# Altium integrated library Capacitor - Ceramic - Sumsung.IntLib: 1421 symbols (part 1 of 22)
Pins are listed as number, name and electrical type; pins without a type are passive.

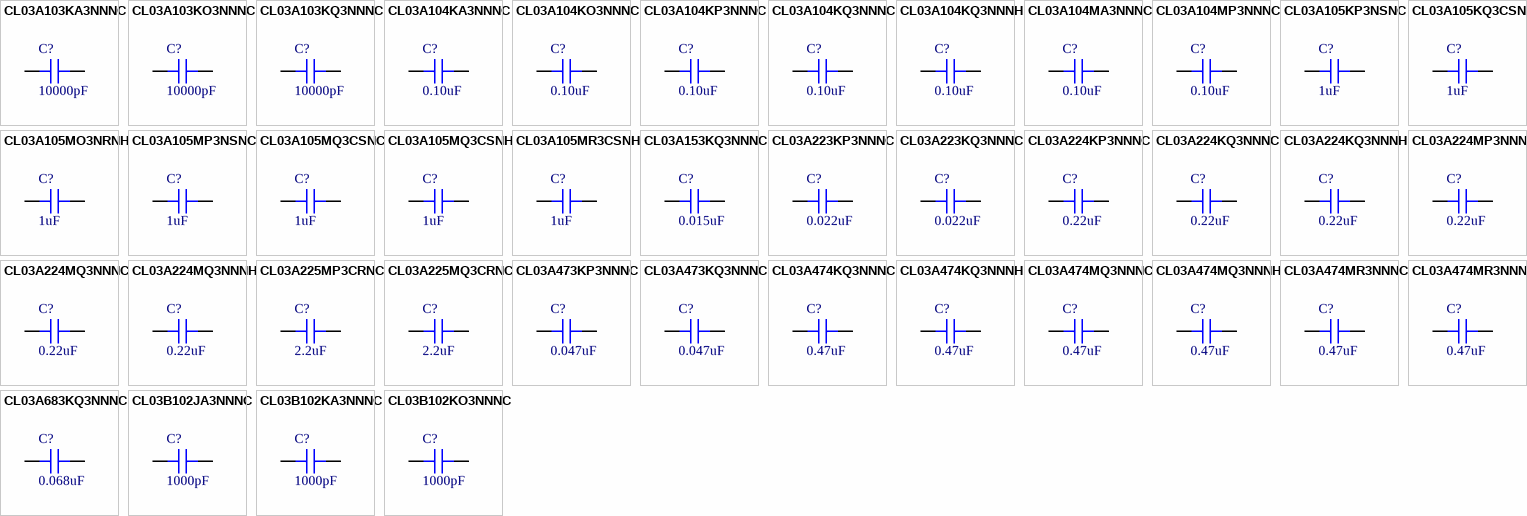
[diagram p0: symbols CL03A103KA3NNNC to CL03B102KO3NNNC]

## CL03A103KA3NNNC
designator C?, comment 10000pF
CAP CER 10000PF 25V X5R 0201; Part Number: CL03A103KA3NNNC; Manufacturer: Samsung Electro-Mechanics America, Inc.; TemperatureRange: -55C ~ 85C; Tolerance: 10%; Value: 10000pF; PartId: 20651; Supplier 1: Digi-Key; Supplier Part Number 1: 1276-1314-2-ND; ComponentLink1Description: Datasheet; ComponentLink1URL: http://www.samsungsem.com/kr/support/product-search/mlcc/__icsFiles/afieldfile/2016/08/18/S_CL03A103KA3NNNC.pdf; ComponentLink2Description: Digi-Key Listing; ComponentLink2URL: https://www.digikey.com/product-detail/en/samsung-electro-mechanics-america-inc/CL03A103KA3NNNC/1276-1314-2-ND/3886972; TemperatureCoefficient: X5R; Voltage: 25V; Price: 0.0247; Device Package: 0201 (0603 Metric)
footprint CAP 0201/0603
pins: 1, 2

## CL03A103KO3NNNC
designator C?, comment 10000pF
CAP CER 10000PF 16V X5R 0201; Part Number: CL03A103KO3NNNC; Manufacturer: Samsung Electro-Mechanics America, Inc.; TemperatureRange: -55C ~ 85C; Tolerance: 10%; Value: 10000pF; PartId: 20504; Supplier 1: Digi-Key; Supplier Part Number 1: 1276-1315-2-ND; ComponentLink1Description: Datasheet; ComponentLink1URL: http://www.samsungsem.com/kr/support/product-search/mlcc/__icsFiles/afieldfile/2016/08/18/S_CL03A103KO3NNNC.pdf; ComponentLink2Description: Digi-Key Listing; ComponentLink2URL: https://www.digikey.com/product-detail/en/samsung-electro-mechanics-america-inc/CL03A103KO3NNNC/1276-1315-2-ND/3886973; TemperatureCoefficient: X5R; Voltage: 16V; Price: 0.0023; Device Package: 0201 (0603 Metric)
footprint CAP 0201/0603
pins: 1, 2

## CL03A103KQ3NNNC
designator C?, comment 10000pF
CAP CER 10000PF 6.3V X5R 0201; Part Number: CL03A103KQ3NNNC; Manufacturer: Samsung Electro-Mechanics America, Inc.; TemperatureRange: -55C ~ 85C; Tolerance: 10%; Value: 10000pF; PartId: 20503; Supplier 1: Digi-Key; Supplier Part Number 1: 1276-1317-2-ND; ComponentLink1Description: Datasheet; ComponentLink1URL: http://www.samsungsem.com/kr/support/product-search/mlcc/__icsFiles/afieldfile/2016/08/18/S_CL03A103KQ3NNNC.pdf; ComponentLink2Description: Digi-Key Listing; ComponentLink2URL: https://www.digikey.com/product-detail/en/samsung-electro-mechanics-america-inc/CL03A103KQ3NNNC/1276-1317-2-ND/3886975; TemperatureCoefficient: X5R; Voltage: 6.3V; Price: 0.0023; Device Package: 0201 (0603 Metric)
footprint CAP 0201/0603
pins: 1, 2

## CL03A104KA3NNNC
designator C?, comment 0.10uF
CAP CER 0.1UF 25V X5R 0201; Part Number: CL03A104KA3NNNC; Manufacturer: Samsung Electro-Mechanics America, Inc.; TemperatureRange: -55C ~ 85C; Tolerance: 10%; Value: 0.10uF; PartId: 20441; Supplier 1: Digi-Key; Supplier Part Number 1: 1276-1318-2-ND; ComponentLink1Description: Datasheet; ComponentLink1URL: http://www.samsungsem.com/kr/support/product-search/mlcc/__icsFiles/afieldfile/2016/08/18/S_CL03A104KA3NNNC.pdf; ComponentLink2Description: Digi-Key Listing; ComponentLink2URL: https://www.digikey.com/product-detail/en/samsung-electro-mechanics-america-inc/CL03A104KA3NNNC/1276-1318-2-ND/3886976; TemperatureCoefficient: X5R; Voltage: 25V; Price: 0.0612; Device Package: 0201 (0603 Metric)
footprint CAP 0201/0603
pins: 1, 2

## CL03A104KO3NNNC
designator C?, comment 0.10uF
CAP CER 0.1UF 16V X5R 0201; Part Number: CL03A104KO3NNNC; Manufacturer: Samsung Electro-Mechanics America, Inc.; TemperatureRange: -55C ~ 85C; Tolerance: 10%; Value: 0.10uF; PartId: 20443; Supplier 1: Digi-Key; Supplier Part Number 1: 1276-1319-2-ND; ComponentLink1Description: Datasheet; ComponentLink1URL: http://www.samsungsem.com/kr/support/product-search/mlcc/__icsFiles/afieldfile/2016/08/18/S_CL03A104KO3NNNC.pdf; ComponentLink2Description: Digi-Key Listing; ComponentLink2URL: https://www.digikey.com/product-detail/en/samsung-electro-mechanics-america-inc/CL03A104KO3NNNC/1276-1319-2-ND/3886977; TemperatureCoefficient: X5R; Voltage: 16V; Price: 0.0646; Device Package: 0201 (0603 Metric)
footprint CAP 0201/0603
pins: 1, 2

## CL03A104KP3NNNC
designator C?, comment 0.10uF
CAP CER 0.1UF 10V X5R 0201; Part Number: CL03A104KP3NNNC; Manufacturer: Samsung Electro-Mechanics America, Inc.; TemperatureRange: -55C ~ 85C; Tolerance: 10%; Value: 0.10uF; PartId: 20562; Supplier 1: Digi-Key; Supplier Part Number 1: 1276-1115-2-ND; ComponentLink1Description: Datasheet; ComponentLink1URL: http://www.samsungsem.com/kr/support/product-search/mlcc/__icsFiles/afieldfile/2016/08/18/S_CL03A104KP3NNND.pdf; ComponentLink2Description: Digi-Key Listing; ComponentLink2URL: https://www.digikey.com/product-detail/en/samsung-electro-mechanics-america-inc/CL03A104KP3NNNC/1276-1115-2-ND/3886773; TemperatureCoefficient: X5R; Voltage: 10V; Price: 0.0031; Device Package: 0201 (0603 Metric)
footprint CAP 0201/0603
pins: 1, 2

## CL03A104KQ3NNNC
designator C?, comment 0.10uF
CAP CER 0.1UF 6.3V X5R 0201; Part Number: CL03A104KQ3NNNC; Manufacturer: Samsung Electro-Mechanics America, Inc.; TemperatureRange: -55C ~ 85C; Tolerance: 10%; Value: 0.10uF; PartId: 20607; Supplier 1: Digi-Key; Supplier Part Number 1: 1276-1013-2-ND; ComponentLink1Description: Datasheet; ComponentLink1URL: http://www.samsungsem.com/kr/support/product-search/mlcc/__icsFiles/afieldfile/2016/08/18/S_CL03A104KQ3NNNC.pdf; ComponentLink2Description: Digi-Key Listing; ComponentLink2URL: https://www.digikey.com/product-detail/en/samsung-electro-mechanics-america-inc/CL03A104KQ3NNNC/1276-1013-2-ND/3886671; TemperatureCoefficient: X5R; Voltage: 6.3V; Price: 0.0045; Device Package: 0201 (0603 Metric)
footprint CAP 0201/0603
pins: 1, 2

## CL03A104KQ3NNNH
designator C?, comment 0.10uF
CAP CER 0.1UF 6.3V X5R 0201; Part Number: CL03A104KQ3NNNH; Manufacturer: Samsung Electro-Mechanics America, Inc.; TemperatureRange: -55C ~ 85C; Tolerance: 10%; Value: 0.10uF; PartId: 20461; Supplier 1: Digi-Key; Supplier Part Number 1: 1276-6439-2-ND; ComponentLink1Description: Datasheet; ComponentLink1URL: http://www.samsungsem.com/kr/support/product-search/mlcc/__icsFiles/afieldfile/2016/08/18/S_CL03A104KQ3NNNH.pdf; ComponentLink2Description: Digi-Key Listing; ComponentLink2URL: https://www.digikey.com/product-detail/en/samsung-electro-mechanics-america-inc/CL03A104KQ3NNNH/1276-6439-2-ND/3894095; TemperatureCoefficient: X5R; Voltage: 6.3V; Price: 0.0014; Device Package: 0201 (0603 Metric)
footprint CAP 0201/0603
pins: 1, 2

## CL03A104MA3NNNC
designator C?, comment 0.10uF
CAP CER 0.1UF 25V X5R 0201; Part Number: CL03A104MA3NNNC; Manufacturer: Samsung Electro-Mechanics America, Inc.; TemperatureRange: -55C ~ 85C; Tolerance: 20%; Value: 0.10uF; PartId: 20858; Supplier 1: Digi-Key; Supplier Part Number 1: 1276-1320-2-ND; ComponentLink1Description: Datasheet; ComponentLink1URL: http://www.samsungsem.com/kr/support/product-search/mlcc/__icsFiles/afieldfile/2016/08/18/S_CL03A104MA3NNNC.pdf; ComponentLink2Description: Digi-Key Listing; ComponentLink2URL: https://www.digikey.com/product-detail/en/samsung-electro-mechanics-america-inc/CL03A104MA3NNNC/1276-1320-2-ND/3886978; TemperatureCoefficient: X5R; Voltage: 25V; Price: 0.0712; Device Package: 0201 (0603 Metric)
footprint CAP 0201/0603
pins: 1, 2

## CL03A104MP3NNNC
designator C?, comment 0.10uF
CAP CER 0.1UF 10V X5R 0201; Part Number: CL03A104MP3NNNC; Manufacturer: Samsung Electro-Mechanics America, Inc.; TemperatureRange: -55C ~ 85C; Tolerance: 20%; Value: 0.10uF; PartId: 20615; Supplier 1: Digi-Key; Supplier Part Number 1: 1276-1321-2-ND; ComponentLink1Description: Datasheet; ComponentLink1URL: http://www.samsungsem.com/kr/support/product-search/mlcc/__icsFiles/afieldfile/2016/08/18/S_CL03A104MP3NNNC.pdf; ComponentLink2Description: Digi-Key Listing; ComponentLink2URL: https://www.digikey.com/product-detail/en/samsung-electro-mechanics-america-inc/CL03A104MP3NNNC/1276-1321-2-ND/3886979; TemperatureCoefficient: X5R; Voltage: 10V; Price: 0.0056; Device Package: 0201 (0603 Metric)
footprint CAP 0201/0603
pins: 1, 2

## CL03A105KP3NSNC
designator C?, comment 1uF
CAP CER 1UF 10V X5R 0201; Part Number: CL03A105KP3NSNC; Manufacturer: Samsung Electro-Mechanics America, Inc.; TemperatureRange: -55C ~ 85C; Tolerance: 10%; Value: 1uF; PartId: 20650; Supplier 1: Digi-Key; Supplier Part Number 1: 1276-6795-2-ND; ComponentLink1Description: Datasheet; ComponentLink1URL: //media.digikey.com/pdf/Data%20Sheets/Samsung%20PDFs/MLCC_Catalog_2015.pdf; ComponentLink2Description: Digi-Key Listing; ComponentLink2URL: https://www.digikey.com/product-detail/en/samsung-electro-mechanics-america-inc/CL03A105KP3NSNC/1276-6795-2-ND/5961279; TemperatureCoefficient: X5R; Voltage: 10V; Price: 0.0237; Device Package: 0201 (0603 Metric)
footprint CAP 0201/0603
pins: 1, 2

## CL03A105KQ3CSNC
designator C?, comment 1uF
CAP CER 1UF 6.3V X5R 0201; Part Number: CL03A105KQ3CSNC; Manufacturer: Samsung Electro-Mechanics America, Inc.; TemperatureRange: -55C ~ 85C; Tolerance: 10%; Value: 1uF; PartId: 20445; Supplier 1: Digi-Key; Supplier Part Number 1: 1276-1323-2-ND; ComponentLink1Description: Datasheet; ComponentLink1URL: http://www.samsungsem.com/kr/support/product-search/mlcc/__icsFiles/afieldfile/2016/08/18/S_CL03A105KQ3CSNC.pdf; ComponentLink2Description: Digi-Key Listing; ComponentLink2URL: https://www.digikey.com/product-detail/en/samsung-electro-mechanics-america-inc/CL03A105KQ3CSNC/1276-1323-2-ND/3886981; TemperatureCoefficient: X5R; Voltage: 6.3V; Price: 0.072; Device Package: 0201 (0603 Metric)
footprint CAP 0201/0603
pins: 1, 2

## CL03A105MO3NRNH
designator C?, comment 1uF
CAP CER 1UF 16V X5R 0201; Part Number: CL03A105MO3NRNH; Manufacturer: Samsung Electro-Mechanics America, Inc.; TemperatureRange: -55C ~ 85C; Tolerance: 20%; Value: 1uF; PartId: 20655; Supplier 1: Digi-Key; Supplier Part Number 1: 1276-6798-2-ND; ComponentLink1Description: Datasheet; ComponentLink1URL: //media.digikey.com/pdf/Data%20Sheets/Samsung%20PDFs/CL03A105MO3NRNH_Spec.pdf; ComponentLink2Description: Digi-Key Listing; ComponentLink2URL: https://www.digikey.com/product-detail/en/samsung-electro-mechanics-america-inc/CL03A105MO3NRNH/1276-6798-2-ND/5961282; TemperatureCoefficient: X5R; Voltage: 16V; Price: 0.0376; Device Package: 0201 (0603 Metric)
footprint CAP 0201/0603
pins: 1, 2

## CL03A105MP3NSNC
designator C?, comment 1uF
CAP CER 1UF 10V X5R 0201; Part Number: CL03A105MP3NSNC; Manufacturer: Samsung Electro-Mechanics America, Inc.; TemperatureRange: -55C ~ 85C; Tolerance: 20%; Value: 1uF; PartId: 20447; Supplier 1: Digi-Key; Supplier Part Number 1: 1276-1324-2-ND; ComponentLink1Description: Datasheet; ComponentLink1URL: http://www.samsungsem.com/kr/support/product-search/mlcc/__icsFiles/afieldfile/2016/08/18/S_CL03A105MP3NSNC.pdf; ComponentLink2Description: Digi-Key Listing; ComponentLink2URL: https://www.digikey.com/product-detail/en/samsung-electro-mechanics-america-inc/CL03A105MP3NSNC/1276-1324-2-ND/3886982; TemperatureCoefficient: X5R; Voltage: 10V; Price: 0.1301; Device Package: 0201 (0603 Metric)
footprint CAP 0201/0603
pins: 1, 2

## CL03A105MQ3CSNC
designator C?, comment 1uF
CAP CER 1UF 6.3V X5R 0201; Part Number: CL03A105MQ3CSNC; Manufacturer: Samsung Electro-Mechanics America, Inc.; TemperatureRange: -55C ~ 85C; Tolerance: 20%; Value: 1uF; PartId: 20444; Supplier 1: Digi-Key; Supplier Part Number 1: 1276-1325-2-ND; ComponentLink1Description: Datasheet; ComponentLink1URL: http://www.samsungsem.com/kr/support/product-search/mlcc/__icsFiles/afieldfile/2016/08/18/S_CL03A105MQ3CSNC.pdf; ComponentLink2Description: Digi-Key Listing; ComponentLink2URL: https://www.digikey.com/product-detail/en/samsung-electro-mechanics-america-inc/CL03A105MQ3CSNC/1276-1325-2-ND/3886983; TemperatureCoefficient: X5R; Voltage: 6.3V; Price: 0.0665; Device Package: 0201 (0603 Metric)
footprint CAP 0201/0603
pins: 1, 2

## CL03A105MQ3CSNH
designator C?, comment 1uF
CAP CER 1UF 6.3V X5R 0201; Part Number: CL03A105MQ3CSNH; Manufacturer: Samsung Electro-Mechanics; TemperatureRange: -55C ~ 85C; Tolerance: 20%; Value: 1uF; PartId: 30186; Supplier 1: Digi-Key; Supplier Part Number 1: 1276-6441-2-ND; ComponentLink1Description: Datasheet; ComponentLink1URL: http://www.samsungsem.com/kr/support/product-search/mlcc/CL03A105MQ3CSNH.jsp; ComponentLink2Description: Digi-Key Listing; ComponentLink2URL: https://www.digikey.com/product-detail/en/samsung-electro-mechanics/CL03A105MQ3CSNH/1276-6441-2-ND/3894097; TemperatureCoefficient: X5R; Voltage: 6.3V; Price: 0; Device Package: 0201 (0603 Metric)
footprint CAP 0201/0603
pins: 1, 2

## CL03A105MR3CSNH
designator C?, comment 1uF
CAP CER 1UF 4V X5R 0201; Part Number: CL03A105MR3CSNH; Manufacturer: Samsung Electro-Mechanics America, Inc.; TemperatureRange: -55C ~ 85C; Tolerance: 20%; Value: 1uF; PartId: 21024; Supplier 1: Digi-Key; Supplier Part Number 1: 1276-6442-2-ND; ComponentLink1Description: Datasheet; ComponentLink1URL: http://www.samsungsem.com/kr/support/product-search/mlcc/__icsFiles/afieldfile/2016/08/18/S_CL03A105MR3CSNH.pdf; ComponentLink2Description: Digi-Key Listing; ComponentLink2URL: https://www.digikey.com/product-detail/en/samsung-electro-mechanics-america-inc/CL03A105MR3CSNH/1276-6442-2-ND/3894098; TemperatureCoefficient: X5R; Voltage: 4V; Price: 0.0638; Device Package: 0201 (0603 Metric)
footprint CAP 0201/0603
pins: 1, 2

## CL03A153KQ3NNNC
designator C?, comment 0.015uF
CAP CER 0.015UF 6.3V X5R 0201; Part Number: CL03A153KQ3NNNC; Manufacturer: Samsung Electro-Mechanics America, Inc.; TemperatureRange: -55C ~ 85C; Tolerance: 10%; Value: 0.015uF; PartId: 21057; Supplier 1: Digi-Key; Supplier Part Number 1: 1276-1327-2-ND; ComponentLink1Description: Datasheet; ComponentLink1URL: http://www.samsungsem.com/kr/support/product-search/mlcc/__icsFiles/afieldfile/2016/08/18/S_CL03A153KQ3NNNC.pdf; ComponentLink2Description: Digi-Key Listing; ComponentLink2URL: https://www.digikey.com/product-detail/en/samsung-electro-mechanics-america-inc/CL03A153KQ3NNNC/1276-1327-2-ND/3886985; TemperatureCoefficient: X5R; Voltage: 6.3V; Price: 0.0046; Device Package: 0201 (0603 Metric)
footprint CAP 0201/0603
pins: 1, 2

## CL03A223KP3NNNC
designator C?, comment 0.022uF
CAP CER 0.022UF 10V X5R 0201; Part Number: CL03A223KP3NNNC; Manufacturer: Samsung Electro-Mechanics America, Inc.; TemperatureRange: -55C ~ 85C; Tolerance: 10%; Value: 0.022uF; PartId: 21081; Supplier 1: Digi-Key; Supplier Part Number 1: 1276-1329-2-ND; ComponentLink1Description: Datasheet; ComponentLink1URL: http://www.samsungsem.com/kr/support/product-search/mlcc/__icsFiles/afieldfile/2016/08/18/S_CL03A223KP3NNNC.pdf; ComponentLink2Description: Digi-Key Listing; ComponentLink2URL: https://www.digikey.com/product-detail/en/samsung-electro-mechanics-america-inc/CL03A223KP3NNNC/1276-1329-2-ND/3886987; TemperatureCoefficient: X5R; Voltage: 10V; Price: 0.0046; Device Package: 0201 (0603 Metric)
footprint CAP 0201/0603
pins: 1, 2

## CL03A223KQ3NNNC
designator C?, comment 0.022uF
CAP CER 0.022UF 6.3V X5R 0201; Part Number: CL03A223KQ3NNNC; Manufacturer: Samsung Electro-Mechanics America, Inc.; TemperatureRange: -55C ~ 85C; Tolerance: 10%; Value: 0.022uF; PartId: 20769; Supplier 1: Digi-Key; Supplier Part Number 1: 1276-1330-2-ND; ComponentLink1Description: Datasheet; ComponentLink1URL: http://www.samsungsem.com/kr/support/product-search/mlcc/__icsFiles/afieldfile/2016/08/18/S_CL03A223KQ3NNNC.pdf; ComponentLink2Description: Digi-Key Listing; ComponentLink2URL: https://www.digikey.com/product-detail/en/samsung-electro-mechanics-america-inc/CL03A223KQ3NNNC/1276-1330-2-ND/3886988; TemperatureCoefficient: X5R; Voltage: 6.3V; Price: 0.0046; Device Package: 0201 (0603 Metric)
footprint CAP 0201/0603
pins: 1, 2

## CL03A224KP3NNNC
designator C?, comment 0.22uF
CAP CER 0.22UF 10V X5R 0201; Part Number: CL03A224KP3NNNC; Manufacturer: Samsung Electro-Mechanics America, Inc.; TemperatureRange: -55C ~ 85C; Tolerance: 10%; Value: 0.22uF; PartId: 20436; Supplier 1: Digi-Key; Supplier Part Number 1: 1276-1331-2-ND; ComponentLink1Description: Datasheet; ComponentLink1URL: http://www.samsungsem.com/kr/support/product-search/mlcc/__icsFiles/afieldfile/2016/08/18/S_CL03A224KP3NNNC.pdf; ComponentLink2Description: Digi-Key Listing; ComponentLink2URL: https://www.digikey.com/product-detail/en/samsung-electro-mechanics-america-inc/CL03A224KP3NNNC/1276-1331-2-ND/3886989; TemperatureCoefficient: X5R; Voltage: 10V; Price: 0.045; Device Package: 0201 (0603 Metric)
footprint CAP 0201/0603
pins: 1, 2

## CL03A224KQ3NNNC
designator C?, comment 0.22uF
CAP CER 0.22UF 6.3V X5R 0201; Part Number: CL03A224KQ3NNNC; Manufacturer: Samsung Electro-Mechanics America, Inc.; TemperatureRange: -55C ~ 85C; Tolerance: 10%; Value: 0.22uF; PartId: 20645; Supplier 1: Digi-Key; Supplier Part Number 1: 1276-1332-2-ND; ComponentLink1Description: Datasheet; ComponentLink1URL: http://www.samsungsem.com/kr/support/product-search/mlcc/__icsFiles/afieldfile/2016/08/18/S_CL03A224KQ3NNNC.pdf; ComponentLink2Description: Digi-Key Listing; ComponentLink2URL: https://www.digikey.com/product-detail/en/samsung-electro-mechanics-america-inc/CL03A224KQ3NNNC/1276-1332-2-ND/3886990; TemperatureCoefficient: X5R; Voltage: 6.3V; Price: 0.0185; Device Package: 0201 (0603 Metric)
footprint CAP 0201/0603
pins: 1, 2

## CL03A224KQ3NNNH
designator C?, comment 0.22uF
CAP CER 0.22UF 6.3V X5R 0201; Part Number: CL03A224KQ3NNNH; Manufacturer: Samsung Electro-Mechanics America, Inc.; TemperatureRange: -55C ~ 85C; Tolerance: 10%; Value: 0.22uF; PartId: 21016; Supplier 1: Digi-Key; Supplier Part Number 1: 1276-6443-2-ND; ComponentLink1Description: Datasheet; ComponentLink1URL: http://www.samsungsem.com/kr/support/product-search/mlcc/__icsFiles/afieldfile/2016/08/18/S_CL03A224KQ3NNNH.pdf; ComponentLink2Description: Digi-Key Listing; ComponentLink2URL: https://www.digikey.com/product-detail/en/samsung-electro-mechanics-america-inc/CL03A224KQ3NNNH/1276-6443-2-ND/3894100; TemperatureCoefficient: X5R; Voltage: 6.3V; Price: 0.0061; Device Package: 0201 (0603 Metric)
footprint CAP 0201/0603
pins: 1, 2

## CL03A224MP3NNNC
designator C?, comment 0.22uF
CAP CER 0.22UF 10V X5R 0201; Part Number: CL03A224MP3NNNC; Manufacturer: Samsung Electro-Mechanics America, Inc.; TemperatureRange: -55C ~ 85C; Tolerance: 20%; Value: 0.22uF; PartId: 21064; Supplier 1: Digi-Key; Supplier Part Number 1: 1276-6730-2-ND; ComponentLink1Description: Datasheet; ComponentLink1URL: //media.digikey.com/pdf/Data%20Sheets/Samsung%20PDFs/CL_Series_MLCC_ds.pdf; ComponentLink2Description: Digi-Key Listing; ComponentLink2URL: https://www.digikey.com/product-detail/en/samsung-electro-mechanics-america-inc/CL03A224MP3NNNC/1276-6730-2-ND/5961214; TemperatureCoefficient: X5R; Voltage: 10V; Price: 0.0109; Device Package: 0201 (0603 Metric)
footprint CAP 0201/0603
pins: 1, 2

## CL03A224MQ3NNNC
designator C?, comment 0.22uF
CAP CER 0.22UF 6.3V X5R 0201; Part Number: CL03A224MQ3NNNC; Manufacturer: Samsung Electro-Mechanics America, Inc.; TemperatureRange: -55C ~ 85C; Tolerance: 20%; Value: 0.22uF; PartId: 20632; Supplier 1: Digi-Key; Supplier Part Number 1: 1276-1042-2-ND; ComponentLink1Description: Datasheet; ComponentLink1URL: http://www.samsungsem.com/kr/support/product-search/mlcc/__icsFiles/afieldfile/2016/08/18/S_CL03A224MQ3NNNC.pdf; ComponentLink2Description: Digi-Key Listing; ComponentLink2URL: https://www.digikey.com/product-detail/en/samsung-electro-mechanics-america-inc/CL03A224MQ3NNNC/1276-1042-2-ND/3886700; TemperatureCoefficient: X5R; Voltage: 6.3V; Price: 0.0097; Device Package: 0201 (0603 Metric)
footprint CAP 0201/0603
pins: 1, 2

## CL03A224MQ3NNNH
designator C?, comment 0.22uF
CAP CER 0.22UF 6.3V X5R 0201; Part Number: CL03A224MQ3NNNH; Manufacturer: Samsung Electro-Mechanics America, Inc.; TemperatureRange: -55C ~ 85C; Tolerance: 20%; Value: 0.22uF; PartId: 21017; Supplier 1: Digi-Key; Supplier Part Number 1: 1276-6444-2-ND; ComponentLink1Description: Datasheet; ComponentLink1URL: http://www.samsungsem.com/kr/support/product-search/mlcc/__icsFiles/afieldfile/2016/08/18/S_CL03A224MQ3NNNH.pdf; ComponentLink2Description: Digi-Key Listing; ComponentLink2URL: https://www.digikey.com/product-detail/en/samsung-electro-mechanics-america-inc/CL03A224MQ3NNNH/1276-6444-2-ND/3894101; TemperatureCoefficient: X5R; Voltage: 6.3V; Price: 0.0092; Device Package: 0201 (0603 Metric)
footprint CAP 0201/0603
pins: 1, 2

## CL03A225MP3CRNC
designator C?, comment 2.2uF
CAP CER 2.2UF 10V X5R 0201; Part Number: CL03A225MP3CRNC; Manufacturer: Samsung Electro-Mechanics America, Inc.; TemperatureRange: -55C ~ 85C; Tolerance: 20%; Value: 2.2uF; PartId: 20654; Supplier 1: Digi-Key; Supplier Part Number 1: 1276-6829-2-ND; ComponentLink1Description: Datasheet; ComponentLink1URL: http://www.samsungsem.com/kr/support/product-search/mlcc/__icsFiles/afieldfile/2016/08/18/S_CL03A225MP3CRNC.pdf; ComponentLink2Description: Digi-Key Listing; ComponentLink2URL: https://www.digikey.com/product-detail/en/samsung-electro-mechanics-america-inc/CL03A225MP3CRNC/1276-6829-2-ND/5961313; TemperatureCoefficient: X5R; Voltage: 10V; Price: 0.0374; Device Package: 0201 (0603 Metric)
footprint CAP 0201/0603
pins: 1, 2

## CL03A225MQ3CRNC
designator C?, comment 2.2uF
CAP CER 2.2UF 6.3V X5R 0201; Part Number: CL03A225MQ3CRNC; Manufacturer: Samsung Electro-Mechanics America, Inc.; TemperatureRange: -55C ~ 85C; Tolerance: 20%; Value: 2.2uF; PartId: 20671; Supplier 1: Digi-Key; Supplier Part Number 1: 1276-6870-2-ND; ComponentLink1Description: Datasheet; ComponentLink1URL: http://www.samsungsem.com/kr/support/product-search/mlcc/__icsFiles/afieldfile/2016/08/18/S_CL03A225MQ3CRNC.pdf; ComponentLink2Description: Digi-Key Listing; ComponentLink2URL: https://www.digikey.com/product-detail/en/samsung-electro-mechanics-america-inc/CL03A225MQ3CRNC/1276-6870-2-ND/5961354; TemperatureCoefficient: X5R; Voltage: 6.3V; Price: 0.112; Device Package: 0201 (0603 Metric)
footprint CAP 0201/0603
pins: 1, 2

## CL03A473KP3NNNC
designator C?, comment 0.047uF
CAP CER 0.047UF 10V X5R 0201; Part Number: CL03A473KP3NNNC; Manufacturer: Samsung Electro-Mechanics America, Inc.; TemperatureRange: -55C ~ 85C; Tolerance: 10%; Value: 0.047uF; PartId: 20846; Supplier 1: Digi-Key; Supplier Part Number 1: 1276-1335-2-ND; ComponentLink1Description: Datasheet; ComponentLink1URL: http://www.samsungsem.com/kr/support/product-search/mlcc/__icsFiles/afieldfile/2016/08/18/S_CL03A473KP3NNNC.pdf; ComponentLink2Description: Digi-Key Listing; ComponentLink2URL: https://www.digikey.com/product-detail/en/samsung-electro-mechanics-america-inc/CL03A473KP3NNNC/1276-1335-2-ND/3886993; TemperatureCoefficient: X5R; Voltage: 10V; Price: 0.0387; Device Package: 0201 (0603 Metric)
footprint CAP 0201/0603
pins: 1, 2

## CL03A473KQ3NNNC
designator C?, comment 0.047uF
CAP CER 0.047UF 6.3V X5R 0201; Part Number: CL03A473KQ3NNNC; Manufacturer: Samsung Electro-Mechanics America, Inc.; TemperatureRange: -55C ~ 85C; Tolerance: 10%; Value: 0.047uF; PartId: 20605; Supplier 1: Digi-Key; Supplier Part Number 1: 1276-1336-2-ND; ComponentLink1Description: Datasheet; ComponentLink1URL: http://www.samsungsem.com/kr/support/product-search/mlcc/__icsFiles/afieldfile/2016/08/18/S_CL03A473KQ3NNNC.pdf; ComponentLink2Description: Digi-Key Listing; ComponentLink2URL: https://www.digikey.com/product-detail/en/samsung-electro-mechanics-america-inc/CL03A473KQ3NNNC/1276-1336-2-ND/3886994; TemperatureCoefficient: X5R; Voltage: 6.3V; Price: 0.0044; Device Package: 0201 (0603 Metric)
footprint CAP 0201/0603
pins: 1, 2

## CL03A474KQ3NNNC
designator C?, comment 0.47uF
CAP CER 0.47UF 6.3V X5R 0201; Part Number: CL03A474KQ3NNNC; Manufacturer: Samsung Electro-Mechanics America, Inc.; TemperatureRange: -55C ~ 85C; Tolerance: 10%; Value: 0.47uF; PartId: 20433; Supplier 1: Digi-Key; Supplier Part Number 1: 1276-1337-2-ND; ComponentLink1Description: Datasheet; ComponentLink1URL: http://www.samsungsem.com/kr/support/product-search/mlcc/__icsFiles/afieldfile/2016/08/18/S_CL03A474KQ3NNNC.pdf; ComponentLink2Description: Digi-Key Listing; ComponentLink2URL: https://www.digikey.com/product-detail/en/samsung-electro-mechanics-america-inc/CL03A474KQ3NNNC/1276-1337-2-ND/3886995; TemperatureCoefficient: X5R; Voltage: 6.3V; Price: 0.038; Device Package: 0201 (0603 Metric)
footprint CAP 0201/0603
pins: 1, 2

## CL03A474KQ3NNNH
designator C?, comment 0.47uF
CAP CER 0.47UF 6.3V X5R 0201; Part Number: CL03A474KQ3NNNH; Manufacturer: Samsung Electro-Mechanics America, Inc.; TemperatureRange: -55C ~ 85C; Tolerance: 10%; Value: 0.47uF; PartId: 21021; Supplier 1: Digi-Key; Supplier Part Number 1: 1276-6445-2-ND; ComponentLink1Description: Datasheet; ComponentLink1URL: http://www.samsungsem.com/kr/support/product-search/mlcc/__icsFiles/afieldfile/2016/08/18/S_CL03A474KQ3NNNH.pdf; ComponentLink2Description: Digi-Key Listing; ComponentLink2URL: https://www.digikey.com/product-detail/en/samsung-electro-mechanics-america-inc/CL03A474KQ3NNNH/1276-6445-2-ND/3894104; TemperatureCoefficient: X5R; Voltage: 6.3V; Price: 0.0296; Device Package: 0201 (0603 Metric)
footprint CAP 0201/0603
pins: 1, 2

## CL03A474MQ3NNNC
designator C?, comment 0.47uF
CAP CER 0.47UF 6.3V X5R 0201; Part Number: CL03A474MQ3NNNC; Manufacturer: Samsung Electro-Mechanics America, Inc.; TemperatureRange: -55C ~ 85C; Tolerance: 20%; Value: 0.47uF; PartId: 20657; Supplier 1: Digi-Key; Supplier Part Number 1: 1276-1338-2-ND; ComponentLink1Description: Datasheet; ComponentLink1URL: http://www.samsungsem.com/kr/support/product-search/mlcc/__icsFiles/afieldfile/2016/08/18/S_CL03A474MQ3NNNC.pdf; ComponentLink2Description: Digi-Key Listing; ComponentLink2URL: https://www.digikey.com/product-detail/en/samsung-electro-mechanics-america-inc/CL03A474MQ3NNNC/1276-1338-2-ND/3886996; TemperatureCoefficient: X5R; Voltage: 6.3V; Price: 0.0391; Device Package: 0201 (0603 Metric)
footprint CAP 0201/0603
pins: 1, 2

## CL03A474MQ3NNNH
designator C?, comment 0.47uF
CAP CER 0.47UF 6.3V X5R 0201; Part Number: CL03A474MQ3NNNH; Manufacturer: Samsung Electro-Mechanics America, Inc.; TemperatureRange: -55C ~ 85C; Tolerance: 20%; Value: 0.47uF; PartId: 21022; Supplier 1: Digi-Key; Supplier Part Number 1: 1276-6446-2-ND; ComponentLink1Description: Datasheet; ComponentLink1URL: http://www.samsungsem.com/kr/support/product-search/mlcc/__icsFiles/afieldfile/2016/08/18/S_CL03A474MQ3NNNH.pdf; ComponentLink2Description: Digi-Key Listing; ComponentLink2URL: https://www.digikey.com/product-detail/en/samsung-electro-mechanics-america-inc/CL03A474MQ3NNNH/1276-6446-2-ND/3894105; TemperatureCoefficient: X5R; Voltage: 6.3V; Price: 0.037; Device Package: 0201 (0603 Metric)
footprint CAP 0201/0603
pins: 1, 2

## CL03A474MR3NNNC
designator C?, comment 0.47uF
CAP CER 0.47UF 4V X5R 0201; Part Number: CL03A474MR3NNNC; Manufacturer: Samsung Electro-Mechanics America, Inc.; TemperatureRange: -55C ~ 85C; Tolerance: 20%; Value: 0.47uF; PartId: 20842; Supplier 1: Digi-Key; Supplier Part Number 1: 1276-1339-2-ND; ComponentLink1Description: Datasheet; ComponentLink1URL: http://www.samsungsem.com/kr/support/product-search/mlcc/__icsFiles/afieldfile/2016/08/18/S_CL03A474MR3NNNC.pdf; ComponentLink2Description: Digi-Key Listing; ComponentLink2URL: https://www.digikey.com/product-detail/en/samsung-electro-mechanics-america-inc/CL03A474MR3NNNC/1276-1339-2-ND/3886997; TemperatureCoefficient: X5R; Voltage: 4V; Price: 0.0342; Device Package: 0201 (0603 Metric)
footprint CAP 0201/0603
pins: 1, 2

## CL03A474MR3NNNH
designator C?, comment 0.47uF
CAP CER 0.47UF 4V X5R 0201; Part Number: CL03A474MR3NNNH; Manufacturer: Samsung Electro-Mechanics America, Inc.; TemperatureRange: -55C ~ 85C; Tolerance: 20%; Value: 0.47uF; PartId: 21020; Supplier 1: Digi-Key; Supplier Part Number 1: 1276-6447-2-ND; ComponentLink1Description: Datasheet; ComponentLink1URL: http://www.samsungsem.com/kr/support/product-search/mlcc/__icsFiles/afieldfile/2016/08/18/S_CL03A474MR3NNNH.pdf; ComponentLink2Description: Digi-Key Listing; ComponentLink2URL: https://www.digikey.com/product-detail/en/samsung-electro-mechanics-america-inc/CL03A474MR3NNNH/1276-6447-2-ND/3894106; TemperatureCoefficient: X5R; Voltage: 4V; Price: 0.0278; Device Package: 0201 (0603 Metric)
footprint CAP 0201/0603
pins: 1, 2

## CL03A683KQ3NNNC
designator C?, comment 0.068uF
CAP CER 0.068UF 6.3V X5R 0201; Part Number: CL03A683KQ3NNNC; Manufacturer: Samsung Electro-Mechanics America, Inc.; TemperatureRange: -55C ~ 85C; Tolerance: 10%; Value: 0.068uF; PartId: 21078; Supplier 1: Digi-Key; Supplier Part Number 1: 1276-1340-2-ND; ComponentLink1Description: Datasheet; ComponentLink1URL: http://www.samsungsem.com/kr/support/product-search/mlcc/__icsFiles/afieldfile/2016/08/18/S_CL03A683KQ3NNNC.pdf; ComponentLink2Description: Digi-Key Listing; ComponentLink2URL: https://www.digikey.com/product-detail/en/samsung-electro-mechanics-america-inc/CL03A683KQ3NNNC/1276-1340-2-ND/3886998; TemperatureCoefficient: X5R; Voltage: 6.3V; Price: 0.0044; Device Package: 0201 (0603 Metric)
footprint CAP 0201/0603
pins: 1, 2

## CL03B102JA3NNNC
designator C?, comment 1000pF
CAP CER 1000PF 25V X7R 0201; Part Number: CL03B102JA3NNNC; Manufacturer: Samsung Electro-Mechanics; TemperatureRange: -55C ~ 125C; Tolerance: 5%; Value: 1000pF; PartId: 30156; Supplier 1: Digi-Key; Supplier Part Number 1: 1276-6550-2-ND; ComponentLink1Description: Datasheet; ComponentLink1URL: http://www.samsungsem.com/kr/support/product-search/mlcc/CL03B102JA3NNNC.jsp; ComponentLink2Description: Digi-Key Listing; ComponentLink2URL: https://www.digikey.com/product-detail/en/samsung-electro-mechanics/CL03B102JA3NNNC/1276-6550-2-ND/5961034; TemperatureCoefficient: X7R; Voltage: 25V; Price: 0; Device Package: 0201 (0603 Metric)
footprint CAP 0201/0603
pins: 1, 2

## CL03B102KA3NNNC
designator C?, comment 1000pF
CAP CER 1000PF 25V X7R 0201; Part Number: CL03B102KA3NNNC; Manufacturer: Samsung Electro-Mechanics America, Inc.; TemperatureRange: -55C ~ 125C; Tolerance: 10%; Value: 1000pF; PartId: 20555; Supplier 1: Digi-Key; Supplier Part Number 1: 1276-1341-2-ND; ComponentLink1Description: Datasheet; ComponentLink1URL: http://www.samsungsem.com/kr/support/product-search/mlcc/__icsFiles/afieldfile/2016/08/18/S_CL03B102KA3NNNC.pdf; ComponentLink2Description: Digi-Key Listing; ComponentLink2URL: https://www.digikey.com/product-detail/en/samsung-electro-mechanics-america-inc/CL03B102KA3NNNC/1276-1341-2-ND/3886999; TemperatureCoefficient: X7R; Voltage: 25V; Price: 0.0028; Device Package: 0201 (0603 Metric)
footprint CAP 0201/0603
pins: 1, 2

## CL03B102KO3NNNC
designator C?, comment 1000pF
CAP CER 1000PF 16V X7R 0201; Part Number: CL03B102KO3NNNC; Manufacturer: Samsung Electro-Mechanics America, Inc.; TemperatureRange: -55C ~ 125C; Tolerance: 10%; Value: 1000pF; PartId: 20554; Supplier 1: Digi-Key; Supplier Part Number 1: 1276-1342-2-ND; ComponentLink1Description: Datasheet; ComponentLink1URL: http://www.samsungsem.com/kr/support/product-search/mlcc/__icsFiles/afieldfile/2016/08/18/S_CL03B102KO3NNNC.pdf; ComponentLink2Description: Digi-Key Listing; ComponentLink2URL: https://www.digikey.com/product-detail/en/samsung-electro-mechanics-america-inc/CL03B102KO3NNNC/1276-1342-2-ND/3887000; TemperatureCoefficient: X7R; Voltage: 16V; Price: 0.0028; Device Package: 0201 (0603 Metric)
footprint CAP 0201/0603
pins: 1, 2

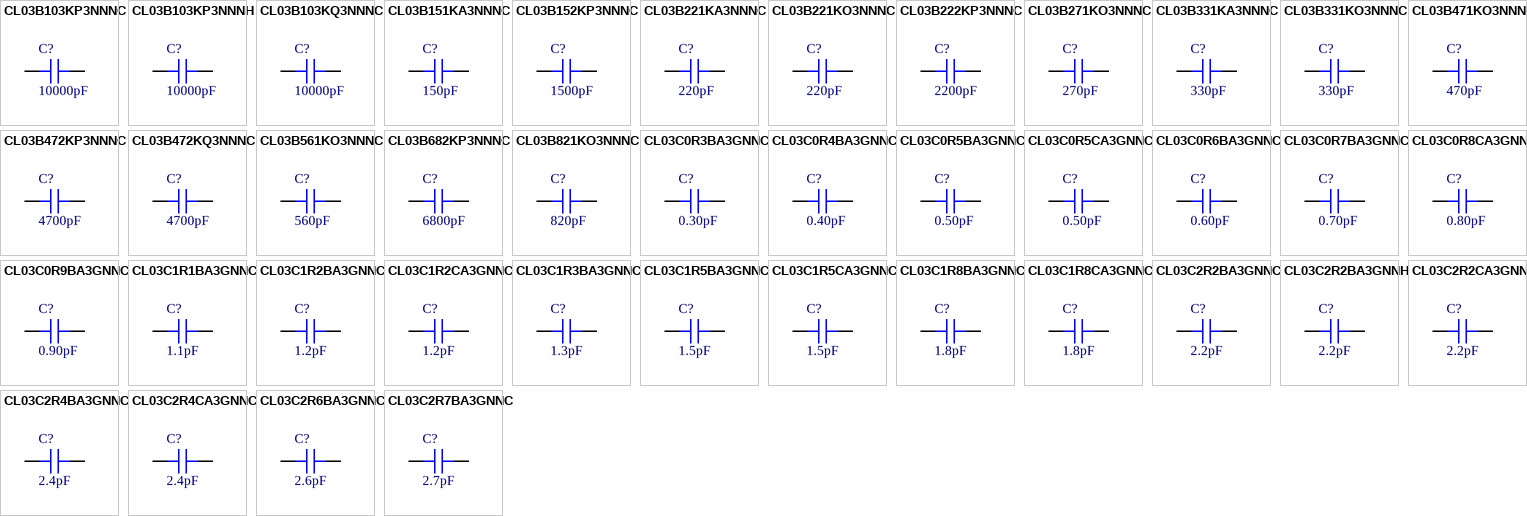
[diagram p1: symbols CL03B103KP3NNNC to CL03C2R7BA3GNNC]

## CL03B103KP3NNNC
designator C?, comment 10000pF
CAP CER 10000PF 10V X7R 0201; Part Number: CL03B103KP3NNNC; Manufacturer: Samsung Electro-Mechanics America, Inc.; TemperatureRange: -55C ~ 125C; Tolerance: 10%; Value: 10000pF; PartId: 20567; Supplier 1: Digi-Key; Supplier Part Number 1: 1276-1152-2-ND; ComponentLink1Description: Datasheet; ComponentLink1URL: http://www.samsungsem.com/kr/support/product-search/mlcc/__icsFiles/afieldfile/2016/08/18/S_CL03B103KP3NNNC.pdf; ComponentLink2Description: Digi-Key Listing; ComponentLink2URL: https://www.digikey.com/product-detail/en/samsung-electro-mechanics-america-inc/CL03B103KP3NNNC/1276-1152-2-ND/3886810; TemperatureCoefficient: X7R; Voltage: 10V; Price: 0.0033; Device Package: 0201 (0603 Metric)
footprint CAP 0201/0603
pins: 1, 2

## CL03B103KP3NNNH
designator C?, comment 10000pF
CAP CER 10000PF 10V X7R 0201; Part Number: CL03B103KP3NNNH; Manufacturer: Samsung Electro-Mechanics America, Inc.; TemperatureRange: -55C ~ 125C; Tolerance: 10%; Value: 10000pF; PartId: 20711; Supplier 1: Digi-Key; Supplier Part Number 1: 1276-6448-2-ND; ComponentLink1Description: Datasheet; ComponentLink1URL: http://www.samsungsem.com/kr/support/product-search/mlcc/__icsFiles/afieldfile/2016/08/18/S_CL03B103KP3NNNH.pdf; ComponentLink2Description: Digi-Key Listing; ComponentLink2URL: https://www.digikey.com/product-detail/en/samsung-electro-mechanics-america-inc/CL03B103KP3NNNH/1276-6448-2-ND/3894109; TemperatureCoefficient: X7R; Voltage: 10V; Price: 0.0026; Device Package: 0201 (0603 Metric)
footprint CAP 0201/0603
pins: 1, 2

## CL03B103KQ3NNNC
designator C?, comment 10000pF
CAP CER 10000PF 6.3V X7R 0201; Part Number: CL03B103KQ3NNNC; Manufacturer: Samsung Electro-Mechanics America, Inc.; TemperatureRange: -55C ~ 125C; Tolerance: 10%; Value: 10000pF; PartId: 20720; Supplier 1: Digi-Key; Supplier Part Number 1: 1276-1344-2-ND; ComponentLink1Description: Datasheet; ComponentLink1URL: http://www.samsungsem.com/kr/support/product-search/mlcc/__icsFiles/afieldfile/2016/08/18/S_CL03B103KQ3NNNC.pdf; ComponentLink2Description: Digi-Key Listing; ComponentLink2URL: https://www.digikey.com/product-detail/en/samsung-electro-mechanics-america-inc/CL03B103KQ3NNNC/1276-1344-2-ND/3887002; TemperatureCoefficient: X7R; Voltage: 6.3V; Price: 0.0033; Device Package: 0201 (0603 Metric)
footprint CAP 0201/0603
pins: 1, 2

## CL03B151KA3NNNC
designator C?, comment 150pF
CAP CER 150PF 25V X7R 0201; Part Number: CL03B151KA3NNNC; Manufacturer: Samsung Electro-Mechanics America, Inc.; TemperatureRange: -55C ~ 125C; Tolerance: 10%; Value: 150pF; PartId: 21036; Supplier 1: Digi-Key; Supplier Part Number 1: 1276-6593-2-ND; ComponentLink1Description: Datasheet; ComponentLink1URL: http://www.samsungsem.com/kr/support/product-search/mlcc/__icsFiles/afieldfile/2016/08/18/S_CL03B151KA3NNNC.pdf; ComponentLink2Description: Digi-Key Listing; ComponentLink2URL: https://www.digikey.com/product-detail/en/samsung-electro-mechanics-america-inc/CL03B151KA3NNNC/1276-6593-2-ND/5961077; TemperatureCoefficient: X7R; Voltage: 25V; Price: 0.0042; Device Package: 0201 (0603 Metric)
footprint CAP 0201/0603
pins: 1, 2

## CL03B152KP3NNNC
designator C?, comment 1500pF
CAP CER 1500PF 10V X7R 0201; Part Number: CL03B152KP3NNNC; Manufacturer: Samsung Electro-Mechanics America, Inc.; TemperatureRange: -55C ~ 125C; Tolerance: 10%; Value: 1500pF; PartId: 21049; Supplier 1: Digi-Key; Supplier Part Number 1: 1276-1346-2-ND; ComponentLink1Description: Datasheet; ComponentLink1URL: http://www.samsungsem.com/kr/support/product-search/mlcc/__icsFiles/afieldfile/2016/08/18/S_CL03B152KP3NNNC.pdf; ComponentLink2Description: Digi-Key Listing; ComponentLink2URL: https://www.digikey.com/product-detail/en/samsung-electro-mechanics-america-inc/CL03B152KP3NNNC/1276-1346-2-ND/3887004; TemperatureCoefficient: X7R; Voltage: 10V; Price: 0.003; Device Package: 0201 (0603 Metric)
footprint CAP 0201/0603
pins: 1, 2

## CL03B221KA3NNNC
designator C?, comment 220pF
CAP CER 220PF 25V X7R 0201; Part Number: CL03B221KA3NNNC; Manufacturer: Samsung Electro-Mechanics America, Inc.; TemperatureRange: -55C ~ 125C; Tolerance: 10%; Value: 220pF; PartId: 21027; Supplier 1: Digi-Key; Supplier Part Number 1: 1276-1347-2-ND; ComponentLink1Description: Datasheet; ComponentLink1URL: http://www.samsungsem.com/kr/support/product-search/mlcc/__icsFiles/afieldfile/2016/08/18/S_CL03B221KA3NNNC.pdf; ComponentLink2Description: Digi-Key Listing; ComponentLink2URL: https://www.digikey.com/product-detail/en/samsung-electro-mechanics-america-inc/CL03B221KA3NNNC/1276-1347-2-ND/3887005; TemperatureCoefficient: X7R; Voltage: 25V; Price: 0.0044; Device Package: 0201 (0603 Metric)
footprint CAP 0201/0603
pins: 1, 2

## CL03B221KO3NNNC
designator C?, comment 220pF
CAP CER 220PF 16V X7R 0201; Part Number: CL03B221KO3NNNC; Manufacturer: Samsung Electro-Mechanics America, Inc.; TemperatureRange: -55C ~ 125C; Tolerance: 10%; Value: 220pF; PartId: 21076; Supplier 1: Digi-Key; Supplier Part Number 1: 1276-1348-2-ND; ComponentLink1Description: Datasheet; ComponentLink1URL: http://www.samsungsem.com/kr/support/product-search/mlcc/__icsFiles/afieldfile/2016/08/18/S_CL03B221KO3NNNC.pdf; ComponentLink2Description: Digi-Key Listing; ComponentLink2URL: https://www.digikey.com/product-detail/en/samsung-electro-mechanics-america-inc/CL03B221KO3NNNC/1276-1348-2-ND/3887006; TemperatureCoefficient: X7R; Voltage: 16V; Price: 0.0044; Device Package: 0201 (0603 Metric)
footprint CAP 0201/0603
pins: 1, 2

## CL03B222KP3NNNC
designator C?, comment 2200pF
CAP CER 2200PF 10V X7R 0201; Part Number: CL03B222KP3NNNC; Manufacturer: Samsung Electro-Mechanics America, Inc.; TemperatureRange: -55C ~ 125C; Tolerance: 10%; Value: 2200pF; PartId: 20753; Supplier 1: Digi-Key; Supplier Part Number 1: 1276-1349-2-ND; ComponentLink1Description: Datasheet; ComponentLink1URL: http://www.samsungsem.com/kr/support/product-search/mlcc/__icsFiles/afieldfile/2016/08/18/S_CL03B222KP3NNNC.pdf; ComponentLink2Description: Digi-Key Listing; ComponentLink2URL: https://www.digikey.com/product-detail/en/samsung-electro-mechanics-america-inc/CL03B222KP3NNNC/1276-1349-2-ND/3887007; TemperatureCoefficient: X7R; Voltage: 10V; Price: 0.0044; Device Package: 0201 (0603 Metric)
footprint CAP 0201/0603
pins: 1, 2

## CL03B271KO3NNNC
designator C?, comment 270pF
CAP CER 270PF 16V X7R 0201; Part Number: CL03B271KO3NNNC; Manufacturer: Samsung Electro-Mechanics America, Inc.; TemperatureRange: -55C ~ 125C; Tolerance: 10%; Value: 270pF; PartId: 21071; Supplier 1: Digi-Key; Supplier Part Number 1: 1276-1350-2-ND; ComponentLink1Description: Datasheet; ComponentLink1URL: http://www.samsungsem.com/kr/support/product-search/mlcc/__icsFiles/afieldfile/2016/08/18/S_CL03B271KO3NNNC.pdf; ComponentLink2Description: Digi-Key Listing; ComponentLink2URL: https://www.digikey.com/product-detail/en/samsung-electro-mechanics-america-inc/CL03B271KO3NNNC/1276-1350-2-ND/3887008; TemperatureCoefficient: X7R; Voltage: 16V; Price: 0.0044; Device Package: 0201 (0603 Metric)
footprint CAP 0201/0603
pins: 1, 2

## CL03B331KA3NNNC
designator C?, comment 330pF
CAP CER 330PF 25V X7R 0201; Part Number: CL03B331KA3NNNC; Manufacturer: Samsung Electro-Mechanics; TemperatureRange: -55C ~ 125C; Tolerance: 10%; Value: 330pF; PartId: 30134; Supplier 1: Digi-Key; Supplier Part Number 1: 1276-1351-2-ND; ComponentLink1Description: Datasheet; ComponentLink1URL: http://www.samsungsem.com/kr/support/product-search/mlcc/CL03B331KA3NNNC.jsp; ComponentLink2Description: Digi-Key Listing; ComponentLink2URL: https://www.digikey.com/product-detail/en/samsung-electro-mechanics/CL03B331KA3NNNC/1276-1351-2-ND/3887009; TemperatureCoefficient: X7R; Voltage: 25V; Price: 0; Device Package: 0201 (0603 Metric)
footprint CAP 0201/0603
pins: 1, 2

## CL03B331KO3NNNC
designator C?, comment 330pF
CAP CER 330PF 16V X7R 0201; Part Number: CL03B331KO3NNNC; Manufacturer: Samsung Electro-Mechanics America, Inc.; TemperatureRange: -55C ~ 125C; Tolerance: 10%; Value: 330pF; PartId: 21068; Supplier 1: Digi-Key; Supplier Part Number 1: 1276-1352-2-ND; ComponentLink1Description: Datasheet; ComponentLink1URL: http://www.samsungsem.com/kr/support/product-search/mlcc/__icsFiles/afieldfile/2016/08/18/S_CL03B331KO3NNNC.pdf; ComponentLink2Description: Digi-Key Listing; ComponentLink2URL: https://www.digikey.com/product-detail/en/samsung-electro-mechanics-america-inc/CL03B331KO3NNNC/1276-1352-2-ND/3887010; TemperatureCoefficient: X7R; Voltage: 16V; Price: 0.0039; Device Package: 0201 (0603 Metric)
footprint CAP 0201/0603
pins: 1, 2

## CL03B471KO3NNNC
designator C?, comment 470pF
CAP CER 470PF 16V X7R 0201; Part Number: CL03B471KO3NNNC; Manufacturer: Samsung Electro-Mechanics America, Inc.; TemperatureRange: -55C ~ 125C; Tolerance: 10%; Value: 470pF; PartId: 20754; Supplier 1: Digi-Key; Supplier Part Number 1: 1276-1354-2-ND; ComponentLink1Description: Datasheet; ComponentLink1URL: http://www.samsungsem.com/kr/support/product-search/mlcc/__icsFiles/afieldfile/2016/08/18/S_CL03B471KO3NNNC.pdf; ComponentLink2Description: Digi-Key Listing; ComponentLink2URL: https://www.digikey.com/product-detail/en/samsung-electro-mechanics-america-inc/CL03B471KO3NNNC/1276-1354-2-ND/3887012; TemperatureCoefficient: X7R; Voltage: 16V; Price: 0.0044; Device Package: 0201 (0603 Metric)
footprint CAP 0201/0603
pins: 1, 2

## CL03B472KP3NNNC
designator C?, comment 4700pF
CAP CER 4700PF 10V X7R 0201; Part Number: CL03B472KP3NNNC; Manufacturer: Samsung Electro-Mechanics America, Inc.; TemperatureRange: -55C ~ 125C; Tolerance: 10%; Value: 4700pF; PartId: 20755; Supplier 1: Digi-Key; Supplier Part Number 1: 1276-1355-2-ND; ComponentLink1Description: Datasheet; ComponentLink1URL: http://www.samsungsem.com/kr/support/product-search/mlcc/__icsFiles/afieldfile/2016/08/18/S_CL03B472KP3NNNC.pdf; ComponentLink2Description: Digi-Key Listing; ComponentLink2URL: https://www.digikey.com/product-detail/en/samsung-electro-mechanics-america-inc/CL03B472KP3NNNC/1276-1355-2-ND/3887013; TemperatureCoefficient: X7R; Voltage: 10V; Price: 0.0044; Device Package: 0201 (0603 Metric)
footprint CAP 0201/0603
pins: 1, 2

## CL03B472KQ3NNNC
designator C?, comment 4700pF
CAP CER 4700PF 6.3V X7R 0201; Part Number: CL03B472KQ3NNNC; Manufacturer: Samsung Electro-Mechanics America, Inc.; TemperatureRange: -55C ~ 125C; Tolerance: 10%; Value: 4700pF; PartId: 21053; Supplier 1: Digi-Key; Supplier Part Number 1: 1276-1356-2-ND; ComponentLink1Description: Datasheet; ComponentLink1URL: http://www.samsungsem.com/kr/support/product-search/mlcc/__icsFiles/afieldfile/2016/08/18/S_CL03B472KQ3NNNC.pdf; ComponentLink2Description: Digi-Key Listing; ComponentLink2URL: https://www.digikey.com/product-detail/en/samsung-electro-mechanics-america-inc/CL03B472KQ3NNNC/1276-1356-2-ND/3887014; TemperatureCoefficient: X7R; Voltage: 6.3V; Price: 0.0036; Device Package: 0201 (0603 Metric)
footprint CAP 0201/0603
pins: 1, 2

## CL03B561KO3NNNC
designator C?, comment 560pF
CAP CER 560PF 16V X7R 0201; Part Number: CL03B561KO3NNNC; Manufacturer: Samsung Electro-Mechanics America, Inc.; TemperatureRange: -55C ~ 125C; Tolerance: 10%; Value: 560pF; PartId: 20606; Supplier 1: Digi-Key; Supplier Part Number 1: 1276-1357-2-ND; ComponentLink1Description: Datasheet; ComponentLink1URL: http://www.samsungsem.com/kr/support/product-search/mlcc/__icsFiles/afieldfile/2016/08/18/S_CL03B561KO3NNNC.pdf; ComponentLink2Description: Digi-Key Listing; ComponentLink2URL: https://www.digikey.com/product-detail/en/samsung-electro-mechanics-america-inc/CL03B561KO3NNNC/1276-1357-2-ND/3887015; TemperatureCoefficient: X7R; Voltage: 16V; Price: 0.0044; Device Package: 0201 (0603 Metric)
footprint CAP 0201/0603
pins: 1, 2

## CL03B682KP3NNNC
designator C?, comment 6800pF
CAP CER 6800PF 10V X7R 0201; Part Number: CL03B682KP3NNNC; Manufacturer: Samsung Electro-Mechanics America, Inc.; TemperatureRange: -55C ~ 125C; Tolerance: 10%; Value: 6800pF; PartId: 21069; Supplier 1: Digi-Key; Supplier Part Number 1: 1276-1358-2-ND; ComponentLink1Description: Datasheet; ComponentLink1URL: http://www.samsungsem.com/kr/support/product-search/mlcc/__icsFiles/afieldfile/2016/08/18/S_CL03B682KP3NNNC.pdf; ComponentLink2Description: Digi-Key Listing; ComponentLink2URL: https://www.digikey.com/product-detail/en/samsung-electro-mechanics-america-inc/CL03B682KP3NNNC/1276-1358-2-ND/3887016; TemperatureCoefficient: X7R; Voltage: 10V; Price: 0.0044; Device Package: 0201 (0603 Metric)
footprint CAP 0201/0603
pins: 1, 2

## CL03B821KO3NNNC
designator C?, comment 820pF
CAP CER 820PF 16V X7R 0201; Part Number: CL03B821KO3NNNC; Manufacturer: Samsung Electro-Mechanics America, Inc.; TemperatureRange: -55C ~ 125C; Tolerance: 10%; Value: 820pF; PartId: 20756; Supplier 1: Digi-Key; Supplier Part Number 1: 1276-1360-2-ND; ComponentLink1Description: Datasheet; ComponentLink1URL: http://www.samsungsem.com/kr/support/product-search/mlcc/__icsFiles/afieldfile/2016/08/18/S_CL03B821KO3NNNC.pdf; ComponentLink2Description: Digi-Key Listing; ComponentLink2URL: https://www.digikey.com/product-detail/en/samsung-electro-mechanics-america-inc/CL03B821KO3NNNC/1276-1360-2-ND/3887018; TemperatureCoefficient: X7R; Voltage: 16V; Price: 0.0044; Device Package: 0201 (0603 Metric)
footprint CAP 0201/0603
pins: 1, 2

## CL03C0R3BA3GNNC
designator C?, comment 0.30pF
CAP CER 0.3PF 25V NP0 0201; Part Number: CL03C0R3BA3GNNC; Manufacturer: Samsung Electro-Mechanics America, Inc.; TemperatureRange: -55C ~ 125C; TemperatureCoefficient: C0G, NP0; Tolerance: 0.1pF; Value: 0.30pF; PartId: 20786; Supplier 1: Digi-Key; Supplier Part Number 1: 1276-1375-2-ND; ComponentLink1Description: Datasheet; ComponentLink1URL: http://www.samsungsem.com/kr/support/product-search/mlcc/__icsFiles/afieldfile/2016/08/18/S_CL03C0R3BA3GNNC.pdf; ComponentLink2Description: Digi-Key Listing; ComponentLink2URL: https://www.digikey.com/product-detail/en/samsung-electro-mechanics-america-inc/CL03C0R3BA3GNNC/1276-1375-2-ND/3887033; Voltage: 25V; Price: 0.0063; Device Package: 0201 (0603 Metric)
footprint CAP 0201/0603
pins: 1, 2

## CL03C0R4BA3GNNC
designator C?, comment 0.40pF
CAP CER 0.4PF 25V NP0 0201; Part Number: CL03C0R4BA3GNNC; Manufacturer: Samsung Electro-Mechanics America, Inc.; TemperatureRange: -55C ~ 125C; TemperatureCoefficient: C0G, NP0; Tolerance: 0.1pF; Value: 0.40pF; PartId: 21061; Supplier 1: Digi-Key; Supplier Part Number 1: 1276-1376-2-ND; ComponentLink1Description: Datasheet; ComponentLink1URL: http://www.samsungsem.com/kr/support/product-search/mlcc/__icsFiles/afieldfile/2016/08/18/S_CL03C0R4BA3GNNC.pdf; ComponentLink2Description: Digi-Key Listing; ComponentLink2URL: https://www.digikey.com/product-detail/en/samsung-electro-mechanics-america-inc/CL03C0R4BA3GNNC/1276-1376-2-ND/3887034; Voltage: 25V; Price: 0.0063; Device Package: 0201 (0603 Metric)
footprint CAP 0201/0603
pins: 1, 2

## CL03C0R5BA3GNNC
designator C?, comment 0.50pF
CAP CER 0.5PF 25V NP0 0201; Part Number: CL03C0R5BA3GNNC; Manufacturer: Samsung Electro-Mechanics America, Inc.; TemperatureRange: -55C ~ 125C; TemperatureCoefficient: C0G, NP0; Tolerance: 0.1pF; Value: 0.50pF; PartId: 20787; Supplier 1: Digi-Key; Supplier Part Number 1: 1276-1377-2-ND; ComponentLink1Description: Datasheet; ComponentLink1URL: http://www.samsungsem.com/kr/support/product-search/mlcc/__icsFiles/afieldfile/2016/08/18/S_CL03C0R5BA3GNNC.pdf; ComponentLink2Description: Digi-Key Listing; ComponentLink2URL: https://www.digikey.com/product-detail/en/samsung-electro-mechanics-america-inc/CL03C0R5BA3GNNC/1276-1377-2-ND/3887035; Voltage: 25V; Price: 0.0063; Device Package: 0201 (0603 Metric)
footprint CAP 0201/0603
pins: 1, 2

## CL03C0R5CA3GNNC
designator C?, comment 0.50pF
CAP CER 0.5PF 25V NP0 0201; Part Number: CL03C0R5CA3GNNC; Manufacturer: Samsung Electro-Mechanics America, Inc.; TemperatureRange: -55C ~ 125C; TemperatureCoefficient: C0G, NP0; Tolerance: 0.25pF; Value: 0.50pF; PartId: 21040; Supplier 1: Digi-Key; Supplier Part Number 1: 1276-6543-2-ND; ComponentLink1Description: Datasheet; ComponentLink1URL: http://www.samsungsem.com/kr/support/product-search/mlcc/__icsFiles/afieldfile/2016/08/18/S_CL03C0R5CA3GNNC.pdf; ComponentLink2Description: Digi-Key Listing; ComponentLink2URL: https://www.digikey.com/product-detail/en/samsung-electro-mechanics-america-inc/CL03C0R5CA3GNNC/1276-6543-2-ND/5961027; Voltage: 25V; Price: 0.0018; Device Package: 0201 (0603 Metric)
footprint CAP 0201/0603
pins: 1, 2

## CL03C0R6BA3GNNC
designator C?, comment 0.60pF
CAP CER 0.6PF 25V NP0 0201; Part Number: CL03C0R6BA3GNNC; Manufacturer: Samsung Electro-Mechanics America, Inc.; TemperatureRange: -55C ~ 125C; TemperatureCoefficient: C0G, NP0; Tolerance: 0.1pF; Value: 0.60pF; PartId: 20788; Supplier 1: Digi-Key; Supplier Part Number 1: 1276-1378-2-ND; ComponentLink1Description: Datasheet; ComponentLink1URL: http://www.samsungsem.com/kr/support/product-search/mlcc/__icsFiles/afieldfile/2016/08/18/S_CL03C0R6BA3GNNC.pdf; ComponentLink2Description: Digi-Key Listing; ComponentLink2URL: https://www.digikey.com/product-detail/en/samsung-electro-mechanics-america-inc/CL03C0R6BA3GNNC/1276-1378-2-ND/3887036; Voltage: 25V; Price: 0.0063; Device Package: 0201 (0603 Metric)
footprint CAP 0201/0603
pins: 1, 2

## CL03C0R7BA3GNNC
designator C?, comment 0.70pF
CAP CER 0.7PF 25V NP0 0201; Part Number: CL03C0R7BA3GNNC; Manufacturer: Samsung Electro-Mechanics America, Inc.; TemperatureRange: -55C ~ 125C; TemperatureCoefficient: C0G, NP0; Tolerance: 0.1pF; Value: 0.70pF; PartId: 21052; Supplier 1: Digi-Key; Supplier Part Number 1: 1276-1379-2-ND; ComponentLink1Description: Datasheet; ComponentLink1URL: http://www.samsungsem.com/kr/support/product-search/mlcc/__icsFiles/afieldfile/2016/08/18/S_CL03C0R7BA3GNNC.pdf; ComponentLink2Description: Digi-Key Listing; ComponentLink2URL: https://www.digikey.com/product-detail/en/samsung-electro-mechanics-america-inc/CL03C0R7BA3GNNC/1276-1379-2-ND/3887037; Voltage: 25V; Price: 0.0063; Device Package: 0201 (0603 Metric)
footprint CAP 0201/0603
pins: 1, 2